# EAGLE library part MOSFET_DUAL_SO8 (library wheat)
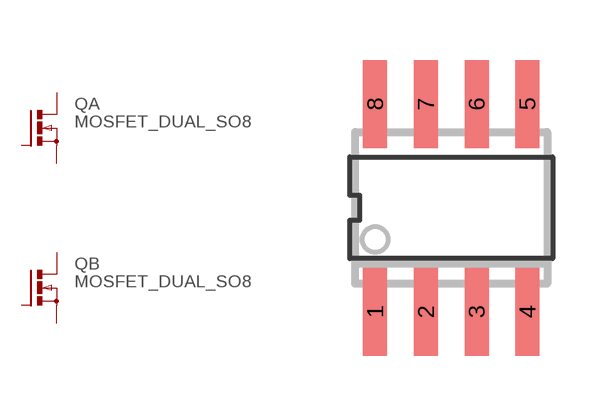
[diagram p176: symbol with the pads of SO8; footprint SO8]

Designator prefix Q; gates A=MOSFET_N B=MOSFET_N

## MOSFET_DUAL_SO8  [SO8]
1  A:S  pas
2  A:G  pas
3  B:S  pas
4  B:G  pas
5  B:D  pas
6  B:D  pas
7  A:D  pas
8  A:D  pas

## Footprint SO8 (pad centres in mm)
SO8
smd 0.6 x 2.2: 1 -1.905,-2.6; 2 -0.635,-2.6; 3 0.635,-2.6; 4 1.905,-2.6; 5 1.905,2.6; 6 0.635,2.6; 7 -0.635,2.6; 8 -1.905,2.6